# Altium footprint library JST_ZR.PcbLib: 5 footprints
Each footprint in its own frame and in the unit in brackets; x right, y up, seen from the top. Pads: shape width x height; smd on the part's side, far side on the other; paste and mask are expansions set on the pad; w line width, h text height; cw(c..) or ccw(c..) is an arc to the next point about the centre after c.
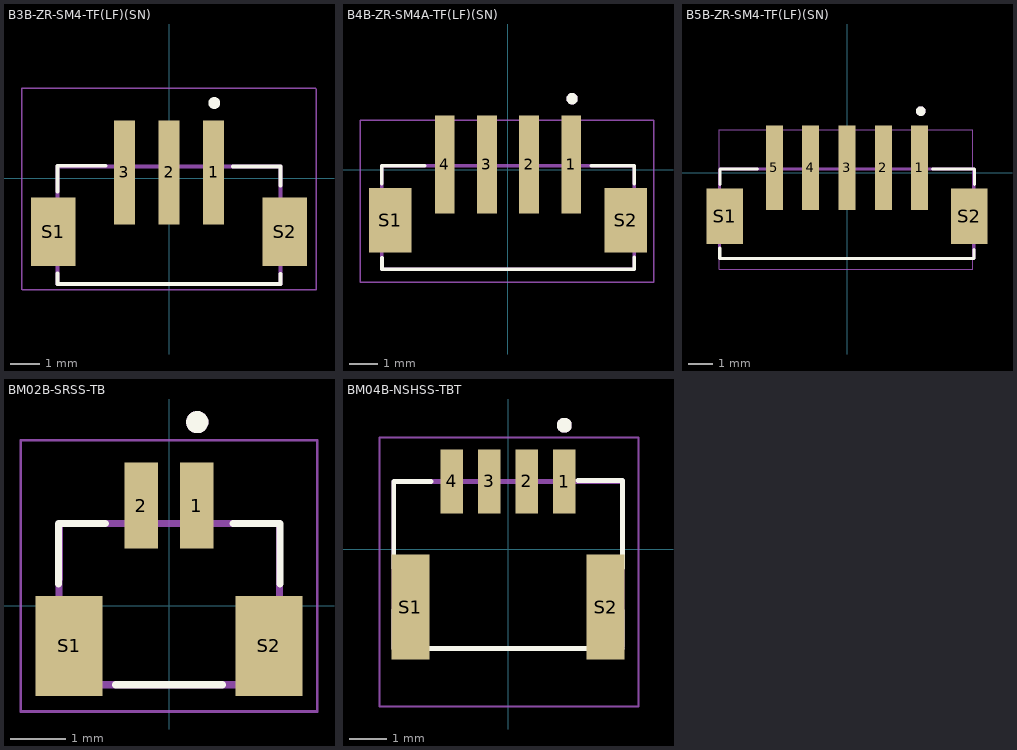
[diagram p0: the footprints below, top view; thin cyan lines are the x and y axes]

## B3B-ZR-SM4-TF(LF)(SN) [mm]
pads (5):
  rect 0.7x3.5 smd: 1(1.5,0.2) 2(0,0.2) 3(-1.5,0.2)
  rect 1.5x2.3 smd: S1(-3.9,-1.8) S2(3.9,-1.8)
Top Overlay:
  circle w0.2: c1.524,2.54 r0.1
  lines w0.127: -3.75,-3.197 -3.75,-3.55 3.75,-3.55 3.75,-3.207 ; -3.75,-0.442 -3.75,0.429 -2.135,0.429 ; 2.159,0.404 3.75,0.404 3.75,-0.236
Mechanical 13:
  lines w0.127: -3.75,-3.55 -3.75,0.404 3.75,0.404 3.75,-3.55 -3.75,-3.55
Mechanical 15:
  lines w0.05: -4.953,-3.744 -4.953,3.035 4.946,3.035 ; -4.942,-3.746 4.953,-3.746 4.953,3.012
3D body "B3B-ZR-SM4-TF.STEP": height 5, standoff 0, extent -3.772,-3.55 3.728,1.65

## B4B-ZR-SM4A-TF(LF)(SN) [mm]
pads (6):
  rect 0.7x3.5 smd: 1(2.25,0.2) 2(0.75,0.2) 3(-0.75,0.2) 4(-2.25,0.2)
  rect 1.5x2.3 smd: S1(-4.2,-1.8) S2(4.2,-1.8)
Top Overlay:
  circle w0.2: c2.286,2.54 r0.1
  lines w0.127: -4.5,-3.55 4.5,-3.55 ; -4.499,-0.49 -4.499,0.15 -2.97,0.15 ; -4.495,-3.546 -4.495,-3.127 ; 2.97,0.15 4.5,0.15 ; 4.5,-3.523 4.5,-3.11 ; 4.5,-0.49 4.5,0.097
Mechanical 13:
  circle w0.2: c2.286,2.54 r0.1
  lines w0.127: -4.5,-3.55 4.5,-3.55 4.5,0.123 ; -4.5,-3.547 -4.5,0.123 ; -4.5,0.15 4.5,0.15
Mechanical 15:
  lines w0.05: -5.275,-4 -5.275,1.778 5.207,1.778 5.207,-4 -5.275,-4
3D body "B4B-ZR-SM4-TF.STEP": height 5, standoff 0, extent -4.5,-3.55 4.5,1.65

## B5B-ZR-SM4-TF(LF)(SN) [mm]
pads (7):
  rect 0.7x3.5 smd: 1(3,0.2) 2(1.5,0.2) 3(0,0.2) 4(-1.5,0.2) 5(-3,0.2)
  rect 1.5x2.3 smd: S1(-5.05,-1.8) S2(5.05,-1.8)
Top Overlay:
  circle w0.2: c3.048,2.54 r0.1
  lines w0.127: -5.261,-3.127 -5.261,-3.55 5.245,-3.55 5.245,-3.175 ; -5.25,-0.49 -5.25,0.15 ; -5.239,0.153 -3.71,0.153 ; 3.53,0.15 5.274,0.15 5.274,-0.49
Mechanical 13:
  circle w0.2: c3.048,2.54 r0.1
  lines w0.127: -5.262,-3.547 -5.262,0.123 ; -5.25,-3.55 4.5,-3.55 ; -5.25,0.15 5.25,0.15 ; 5.25,-3.55 5.25,0.123
Mechanical 15:
  lines w0.05: -5.275,-4 -5.275,1.778 5.207,1.778 5.207,-4 -5.275,-4
3D body "B5B-ZR-SM4-TF.STEP": height 5, standoff 0, extent -5.25,-3.556 5.25,1.644

## BM02B-SRSS-TB [mm]
pads (4):
  rect 0.6x1.55 smd: 1(0.5,1.8) 2(-0.5,1.8)
  rect 1.2x1.8 smd: S1(-1.8,-0.725) S2(1.8,-0.725)
Top Overlay:
  circle w0.2: c0.508,3.302 r0.1
  lines w0.127: -1.99,0.386 -1.99,1.105 -1.99,1.475 -1.143,1.475 ; -0.96,-1.425 0.965,-1.425 ; 1.15,1.475 1.997,1.475 1.997,0.393
Mechanical 13:
  circle w0.2: c0.508,3.302 r0.1
  lines w0.127: -1.977,-1.372 -1.977,1.141 ; -1.969,0.468 -1.969,1.475 1.989,1.475 1.989,-1.425 -1.905,-1.425
Mechanical 15:
  lines w0.05: 0.976,2.974 2.667,2.974 2.667,-1.905 -2.667,-1.905 -2.667,2.974 2.5,2.974
3D body "BM02B-SRSS-TB.STEP": height 4.25, standoff -0.07, extent -2,-1.425 2,2.175

## BM04B-NSHSS-TBT [mm]
pads (6):
  rect 0.6x1.7 smd: 1(1.5,1.8) 2(0.5,1.8) 3(-0.5,1.8) 4(-1.5,1.8)
  rect 1x2.8 smd: S1(-2.6,-1.55) S2(2.6,-1.55)
Top Overlay:
  circle w0.2: c1.5,3.3 r0.1
  lines w0.127: -3.048,-2.65 3.048,-2.65 ; -3.048,-2.641 -3.048,-1.627 ; -3.048,-0.508 -3.048,-0.005 ; -3.048,0.014 -3.048,1.021 -3.048,1.8 -2.056,1.8 ; 1.859,1.824 2.367,1.824 3.053,1.824 3.053,-0.508 ; 3.048,-2.592 3.048,-1.639
Mechanical 13:
  circle w0.2: c1.5,3.3 r0.1
  lines w0.127: -3.048,-2.656 -3.048,-2.517 -3.048,0.468 -3.048,1.8 3.048,1.8 3.048,-2.624 ; -3.048,-2.65 3.048,-2.65
Mechanical 15:
  lines w0.05: 0.976,2.974 3.476,2.974 3.476,-4.2 -3.429,-4.2 -3.429,2.974 -2.5,2.974 2.5,2.974
3D body "BM04B-NSHSS-TBT.STEP": height 6.15, standoff 0, extent -2.996,-2.613 3.004,2.337